# Altium footprint library WatchDogAlarm_rev1_3.PcbLib: 22 footprints (part 1 of 2)
Each footprint in its own frame and in the unit in brackets; x right, y up, seen from the top. Pads: shape width x height; smd on the part's side, far side on the other; paste and mask are expansions set on the pad; w line width, h text height; cw(c..) or ccw(c..) is an arc to the next point about the centre after c.
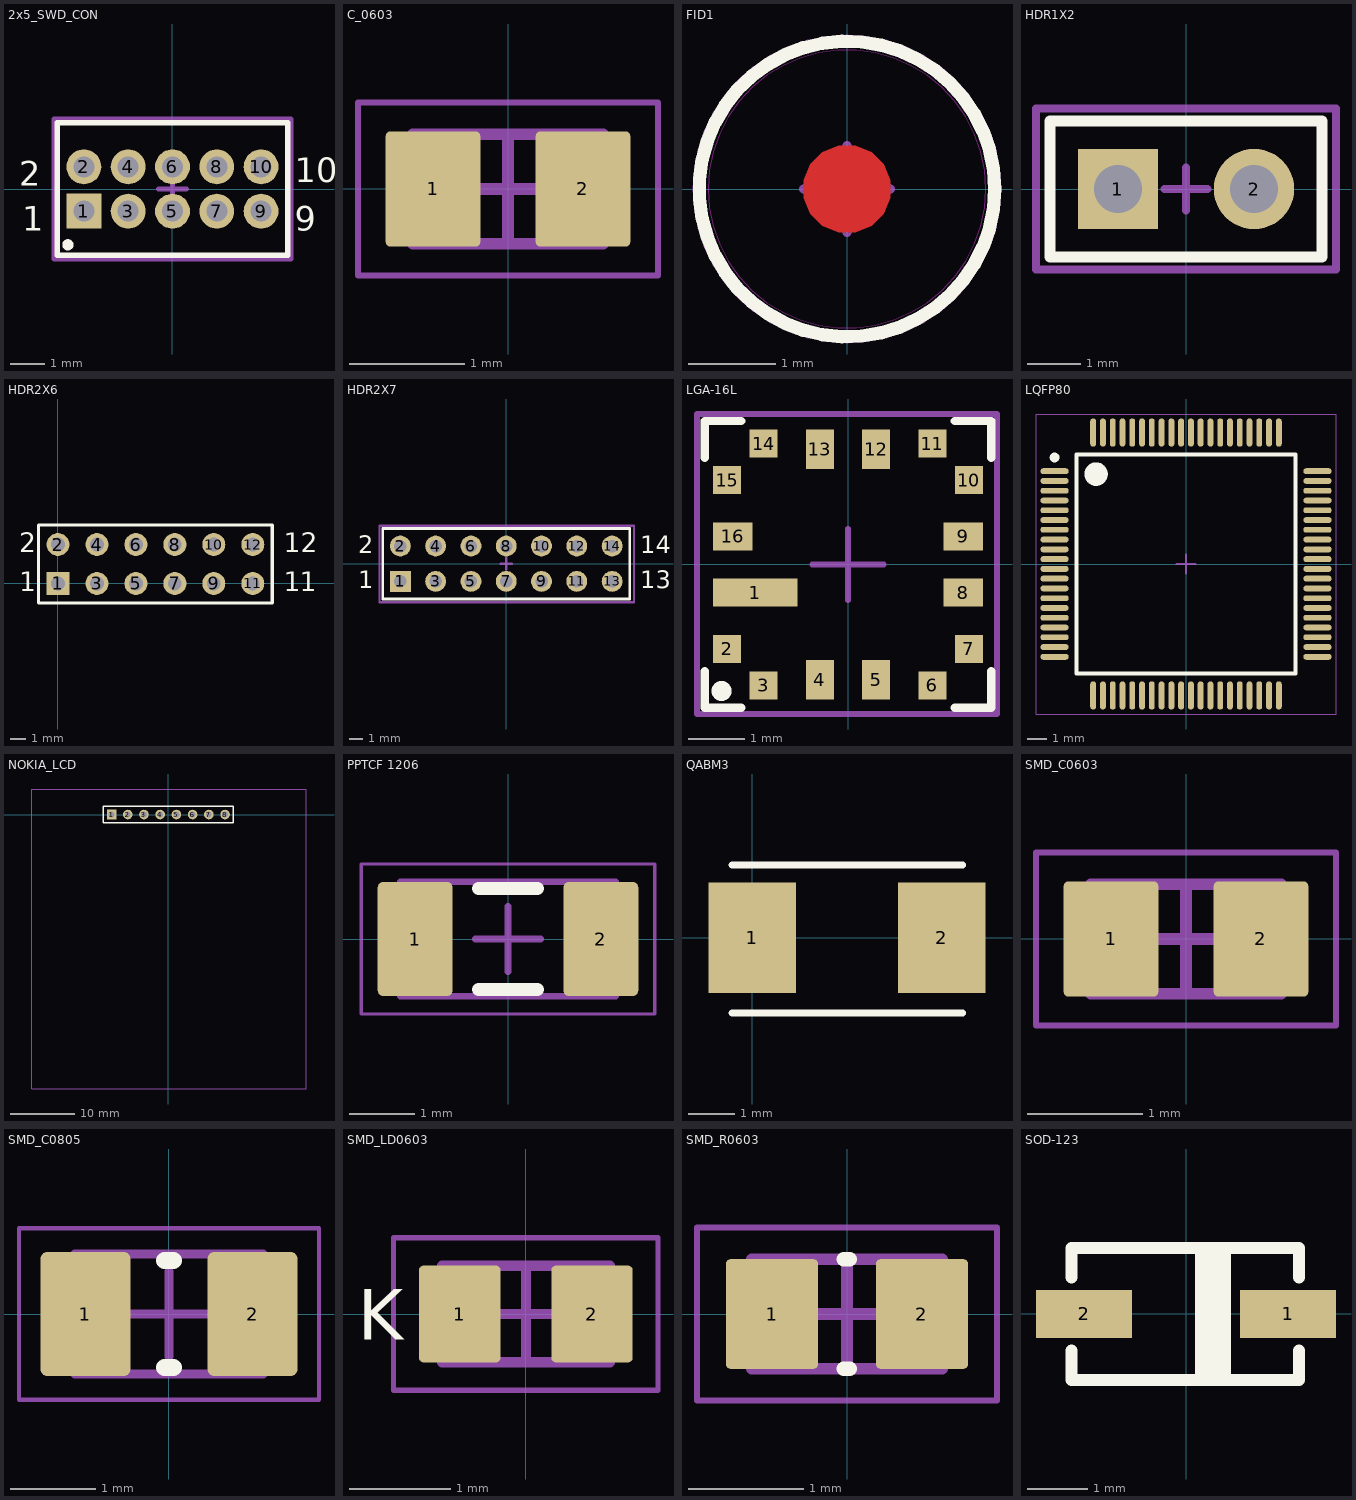
[diagram p0: the footprints below, top view; thin cyan lines are the x and y axes]

## 2x5_SWD_CON [mm]
pads (10):
  rect 1x1 hole 0.6: 1(-2.54,-0.635)
  round 1 hole 0.6: 2(-2.54,0.635) 3(-1.27,-0.635) 4(-1.27,0.635) 5(0,-0.635) 6(0,0.635) 7(1.27,-0.635) 8(1.27,0.635) 9(2.54,-0.635) 10(2.54,0.635)
Top Overlay:
  circle w0.16: c-3,-1.6 r0.08
  lines w0.15: -3.302,-1.9 3.302,-1.9 3.302,1.9 -3.302,1.9 -3.302,-1.9
  text "10" at 3.5,0.2 h0.7
  text "9" at 3.5,-1.2 h0.7
  text "2" at -4.4,0.1 h0.7
  text "1" at -4.3,-1.2 h0.7
Top Courtyard:
  lines w0.15: -0.4,0 0.4,0 ; 0,-0.4 0,0.4 ; -3.4,-2 -3.4,2 3.4,2 3.4,-2 -3.4,-2
3D body "Pin header 2x05 TH pitch 1.27mm.stp": height 5.31, standoff -2.29, extent -3.175,-1.7 3.175,1.7

## C_0603 [mm] "Chip Capacitor, 2-Leads, Body 1.57x0.85mm, IPC Medium Density"
height 0.95
pads (2):
  rrect10% 0.82x1 smd: 1(-0.65,0) 2(0.65,0)
Top Component Outline (Mech13):
  lines w0.1: -0.825,-0.475 -0.825,0.475 0.825,0.475 0.825,-0.475 -0.825,-0.475
Top Courtyard:
  lines w0.05: -1.3,-0.75 1.3,-0.75 1.3,0.75 -1.3,0.75 -1.3,-0.75
  lines w0.1: -0.475,0 0.475,0 ; 0,-0.475 0,0.475
3D body "C0603N.step": height 0.95, standoff 0, extent -0.825,-0.475 0.825,0.475

## FID1 [mm]
Top Layer:
  region: 0,-0.5 -0.099,-0.5 -0.283,-0.424 -0.424,-0.283 -0.5,-0.099 -0.5,0 -0.5,0.099 -0.424,0.283 -0.283,0.424 -0.099,0.5 0,0.5 0.099,0.5 0.283,0.424 0.424,0.283 0.5,0.099 0.5,0 0.5,-0.099 0.424,-0.283 0.283,-0.424 0.099,-0.5
Top Overlay:
  circle w0.152: c0,0 r1.702
Top Solder:
  region: 0,-1.5 -0.148,-1.5 -0.438,-1.442 -0.711,-1.329 -0.956,-1.165 -1.165,-0.956 -1.329,-0.711 -1.442,-0.438 -1.5,-0.148 -1.5,0 -1.5,0.148 -1.442,0.438 -1.329,0.711 -1.165,0.956 -0.956,1.165 -0.711,1.329 -0.438,1.442 -0.148,1.5 0,1.5 0.148,1.5 0.438,1.442 0.711,1.329 0.956,1.165 1.165,0.956 1.329,0.711 1.442,0.438 1.5,0.148 1.5,0 1.5,-0.148 1.442,-0.438 1.329,-0.711 1.165,-0.956 0.956,-1.165 0.711,-1.329 0.438,-1.442 0.148,-1.5
Keep-Out Layer:
  circle w0.01: c0,0 r1.6
Top Courtyard:
  circle w0.102: c0,0 r1.727
  lines w0.1: -0.5,0 0.5,0 ; 0,-0.5 0,0.5

## HDR1X2 [mm] "Connector; Header; 2 Position"
pads (2):
  rect 1.5x1.5 hole 0.9: 1(-1.27,0)
  round 1.5 hole 0.9: 2(1.27,0)
Top Overlay:
  lines w0.2: -2.54,-1.27 2.54,-1.27 2.54,1.27 -2.54,1.27 -2.54,-1.27
Top Courtyard:
  lines w0.15: -0.4,0 0.4,0 ; 0,-0.4 0,0.4 ; -2.8,-1.5 -2.8,1.5 2.8,1.5 2.8,-1.5 -2.8,-1.5
3D body "Pin Header 1x2 TH Pitch 2.54mm.stp": height 9.5, standoff -3.2, extent -2.54,-1.27 2.54,1.27

## HDR2X6 [mm] "Connector; Header; 6x2 Position"
pads (12):
  rect 1.5x1.5 hole 0.9: 1(0,0)
  round 1.5 hole 0.9: 2(0,2.54) 3(2.54,0) 4(2.54,2.54) 5(5.08,0) 6(5.08,2.54) 7(7.62,0) 8(7.62,2.54) 9(10.16,0) 10(10.16,2.54) 11(12.7,0) 12(12.7,2.54)
Top Overlay:
  lines w0.2: -1.27,-1.27 -1.27,3.81 13.97,3.81 13.97,-1.27 -1.27,-1.27
  text "2" at -2.54,2.032 h1.27
  text "1" at -2.54,-0.508 h1.27
  text "1" at 14.732,-0.508 h1.27
  text "1" at 15.748,-0.508 h1.27
  text "12" at 14.732,2.032 h1.27

## HDR2X7 [mm] "Connector; Header; 7x2 Position"
pads (14):
  rect 1.5x1.5 hole 0.9: 1(-7.62,-1.27)
  round 1.5 hole 0.9: 2(-7.62,1.27) 3(-5.08,-1.27) 4(-5.08,1.27) 5(-2.54,-1.27) 6(-2.54,1.27) 7(0,-1.27) 8(0,1.27) 9(2.54,-1.27) 10(2.54,1.27) 11(5.08,-1.27) 12(5.08,1.27) 13(7.62,-1.27) 14(7.62,1.27)
Top Overlay:
  lines w0.2: -8.89,-2.54 8.89,-2.54 8.89,2.54 -8.89,2.54 -8.89,-2.54
  text "13" at 9.652,-1.778 h1.27
  text "14" at 9.652,0.762 h1.27
  text "1" at -10.668,-1.778 h1.27
  text "2" at -10.668,0.762 h1.27
Top Courtyard:
  lines w0.15: -0.4,0 0.4,0 ; 0,-0.4 0,0.4 ; -9.12,-2.77 -9.12,2.73 9.18,2.73 9.18,-2.77 -9.12,-2.77
3D body "Pin Header 1x7 TH Pitch 2.54mm.stp": height 9.5, standoff -3.2, extent -8.89,-2.54 8.89,0
3D body "Pin Header 1x7 TH Pitch 2.54mm.stp": height 9.5, standoff -3.2, extent -8.89,0 8.89,2.54

## LGA-16L [mm]
height 1.7
pads (16):
  rect 1.5x0.5 smd mask+0.05: 1(-1.65,-0.5)
  rect 0.5x0.5 smd mask+0.05: 2(-2.15,-1.5) 3(-1.5,-2.15) 6(1.5,-2.15) 7(2.15,-1.5) 10(2.15,1.5) 11(1.5,2.15) 14(-1.5,2.15) 15(-2.15,1.5)
  rect 0.5x0.7 smd mask+0.05: 4(-0.5,-2.05) 5(0.5,-2.05) 12(0.5,2.05) 13(-0.5,2.05)
  rect 0.7x0.5 smd mask+0.05: 8(2.05,-0.5) 9(2.05,0.5) 16(-2.05,0.5)
Top Overlay:
  circle w0.254: c-2.25,-2.25 r0.05
  lines w0.15: -2.55,-1.9 -2.55,-2.55 -1.9,-2.55 ; -2.55,1.9 -2.55,2.55 -1.9,2.55 ; 1.9,-2.55 2.55,-2.55 2.55,-1.9 ; 1.9,2.55 2.55,2.55 2.55,1.9
Top Courtyard:
  lines w0.1: -0.635,0 0.635,0 ; 0,-0.635 0,0.635 ; -2.685,-2.659 2.649,-2.659 2.649,2.675 -2.685,2.675 -2.685,-2.659
3D body: height 1.7, standoff 0, extent -2.5,-2.5 2.5,2.5

## LQFP80 [mm] "TSQFP, 80-Leads, Body 12,00x12,00mm, Pitch 0,50mm, IPC Medium Density"
height 1.6
pads (80):
  oval 1.45x0.3 smd: 1(-6.725,4.75) 2(-6.725,4.25) 3(-6.725,3.75) 4(-6.725,3.25) 5(-6.725,2.75) 6(-6.725,2.25) 7(-6.725,1.75) 8(-6.725,1.25) 9(-6.725,0.75) 10(-6.725,0.25) 11(-6.725,-0.25) 12(-6.725,-0.75) 13(-6.725,-1.25) 14(-6.725,-1.75) 15(-6.725,-2.25) 16(-6.725,-2.75) 17(-6.725,-3.25) 18(-6.725,-3.75) 19(-6.725,-4.25) 20(-6.725,-4.75) 41(6.725,-4.75) 42(6.725,-4.25) 43(6.725,-3.75) 44(6.725,-3.25) 45(6.725,-2.75) 46(6.725,-2.25) 47(6.725,-1.75) 48(6.725,-1.25) 49(6.725,-0.75) 50(6.725,-0.25) 51(6.725,0.25) 52(6.725,0.75) 53(6.725,1.25) 54(6.725,1.75) 55(6.725,2.25) 56(6.725,2.75) 57(6.725,3.25) 58(6.725,3.75) 59(6.725,4.25) 60(6.725,4.75)
  oval 0.3x1.45 smd: 21(-4.75,-6.725) 22(-4.25,-6.725) 23(-3.75,-6.725) 24(-3.25,-6.725) 25(-2.75,-6.725) 26(-2.25,-6.725) 27(-1.75,-6.725) 28(-1.25,-6.725) 29(-0.75,-6.725) 30(-0.25,-6.725) 31(0.25,-6.725) 32(0.75,-6.725) 33(1.25,-6.725) 34(1.75,-6.725) 35(2.25,-6.725) 36(2.75,-6.725) 37(3.25,-6.725) 38(3.75,-6.725) 39(4.25,-6.725) 40(4.75,-6.725) 61(4.75,6.725) 62(4.25,6.725) 63(3.75,6.725) 64(3.25,6.725) 65(2.75,6.725) 66(2.25,6.725) 67(1.75,6.725) 68(1.25,6.725) 69(0.75,6.725) 70(0.25,6.725) 71(-0.25,6.725) 72(-0.75,6.725) 73(-1.25,6.725) 74(-1.75,6.725) 75(-2.25,6.725) 76(-2.75,6.725) 77(-3.25,6.725) 78(-3.75,6.725) 79(-4.25,6.725) 80(-4.75,6.725)
Top Overlay:
  circle w0.25: c-6.725,5.45 r0.125
  circle w0.6: c-4.6,4.6 r0.3
  lines w0.2: -5.6,-5.6 -5.6,5.6 5.6,5.6 5.6,-5.6 -5.6,-5.6
Top Courtyard:
  lines w0.05: -7.675,-7.675 -7.675,7.675 7.675,7.675 7.675,-7.675 -7.675,-7.675
  lines w0.1: -0.5,0 0.5,0 ; 0,-0.5 0,0.5
3D body "LQFP80.step": height 1.6, standoff 0, extent -6.9,-6.9 6.9,6.9

## NOKIA_LCD [mm] "Connector; Header; 8 Position"
pads (8):
  rect 1.5x1.5 hole 0.9: 1(-8.89,0)
  round 1.5 hole 0.9: 2(-6.35,0) 3(-3.81,0) 4(-1.27,0) 5(1.27,0) 6(3.81,0) 7(6.35,0) 8(8.89,0)
Top Overlay:
  lines w0.2: -10.16,-1.27 -10.16,1.27 10.16,1.27 10.16,-1.27 -10.16,-1.27
Top Courtyard:
  lines w0.15: -21.39,-43 -21.39,3.5 -21.39,4 21.61,4 21.61,-43 -21.39,-43
3D body "Nokia LCD.stp": height 9.5, standoff -2.5, extent -21.14,-42.5 21.36,3.5

## PPTCF 1206 [mm] "PPTC fuse 2-Leads, Body 3.15x1.60mm, IPC Medium Density"
height 0.6
pads (2):
  rrect15% 1.15x1.75 smd: 1(-1.425,0) 2(1.425,0)
Top Overlay:
  lines w0.2: -0.45,-0.775 0.45,-0.775 ; -0.45,0.775 0.45,0.775
Top Component Outline (Mech13):
  lines w0.1: -1.65,-0.875 1.65,-0.875 1.65,0.875 -1.65,0.875 -1.65,-0.875
Top Courtyard:
  lines w0.05: -2.25,-1.15 2.25,-1.15 2.25,1.15 -2.25,1.15 -2.25,-1.15
  lines w0.1: -0.5,0 0.5,0 ; 0,-0.5 0,0.5
3D body "SMD_Polyfuse_1206.stp": height 0.59, standoff 0.01, extent -1.6,-0.825 1.6,0.825

## QABM3 [mm]
pads (2):
  rect 1.9x2.4 smd: 1(0,0) 2(4.1,0)
Top Overlay:
  lines w0.15: -0.443,-1.625 4.557,-1.625 ; -0.443,1.575 4.557,1.575

## SMD_C0603 [mm]
pads (2):
  rrect10% 0.82x1 smd: 1(-0.65,0) 2(0.65,0)
Top Component Outline (Mech13):
  lines w0.1: -0.825,-0.475 0.825,-0.475 0.825,0.475 -0.825,0.475 -0.825,-0.475
Top Courtyard:
  lines w0.05: -1.3,-0.75 -1.3,0.75 1.3,0.75 1.3,-0.75 -1.3,-0.75
  lines w0.1: -0.475,0 0.475,0 ; 0,-0.475 0,0.475
3D body "C0603N.step": height 0.95, standoff 0, extent -0.825,-0.475 0.825,0.475

## SMD_C0805 [mm] "Chip Capacitor, 2-Leads, Body 2.05x1.25mm, IPC Medium Density"
height 1.4
pads (2):
  rrect15% 1.05x1.45 smd: 1(-0.975,0) 2(0.975,0)
Top Overlay:
  lines w0.2: -0.05,-0.625 0.05,-0.625 ; -0.05,0.625 0.05,0.625
Top Component Outline (Mech13):
  lines w0.1: -1.1,-0.7 1.1,-0.7 1.1,0.7 -1.1,0.7 -1.1,-0.7
Top Courtyard:
  lines w0.05: -1.75,-1 1.75,-1 1.75,1 -1.75,1 -1.75,-1
  lines w0.1: -0.5,0 0.5,0 ; 0,-0.5 0,0.5
3D body "C0805_N.step": height 1.4, standoff 0, extent -1.1,-0.7 1.1,0.7

## SMD_LD0603 [mm]
pads (2):
  rrect10% 0.8x0.95 smd: 1(-0.65,0) 2(0.65,0)
Top Overlay:
  text "K" at -1.651,-0.254 h0.5
Top Component Outline (Mech13):
  lines w0.1: -0.825,-0.475 -0.825,0.475 0.825,0.475 0.825,-0.475 -0.825,-0.475
Top Courtyard:
  lines w0.05: -1.3,-0.75 -1.3,0.75 1.3,0.75 1.3,-0.75 -1.3,-0.75
  lines w0.1: -0.475,0 0.475,0 ; 0,-0.475 0,0.475
3D body "STEP-WL-SMCW-0603-rev1.stp": height 0.7, standoff 0, extent -0.8,-0.4 0.8,0.4

## SMD_R0603 [mm]
pads (2):
  rrect10% 0.8x0.95 smd: 1(-0.65,0) 2(0.65,0)
Top Overlay:
  lines w0.127: -0.025,-0.475 0.025,-0.475 ; -0.025,0.475 0.025,0.475
Top Component Outline (Mech13):
  lines w0.1: -0.825,-0.475 0.825,-0.475 0.825,0.475 -0.825,0.475 -0.825,-0.475
Top Courtyard:
  lines w0.05: -1.3,-0.75 1.3,-0.75 1.3,0.75 -1.3,0.75 -1.3,-0.75
  lines w0.1: -0.475,0 0.475,0 ; 0,-0.475 0,0.475
3D body "R0603(1608)_N.step": height 0.5, standoff 0, extent -0.825,-0.475 0.825,0.475

## SOD-123 [mm] "SOD-123; 2 Leads; Body 2.7 x 1.6 mm, (LxW)"
height 1.35
pads (2):
  rect 1.6x0.8 smd: 1(1.7,0) 2(-1.7,0)
Top Overlay:
  rectangle: 0.15,-1.1 0.75,1.1
  lines w0.2: -1.905,-0.61 -1.905,-1.1 1.88,-1.1 1.88,-0.61 ; -1.905,0.61 -1.905,1.1 1.88,1.1 1.88,0.61
3D body "sod123 v4.step": height 1.2, standoff 0, extent -1.875,-0.85 1.875,0.85